# EAGLE library part TSM-106-DV (library con-samtec)
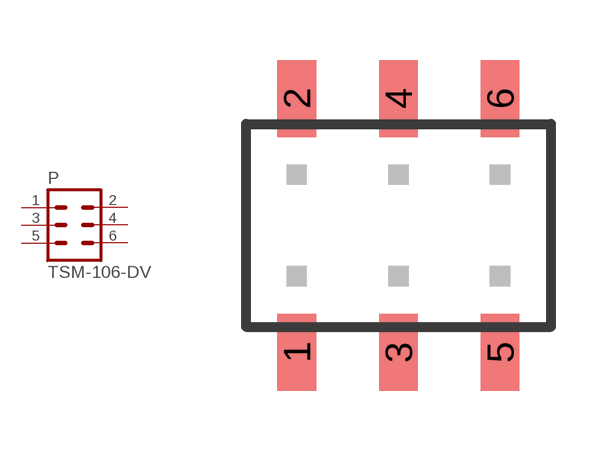
[diagram p3: symbol with the pads of TSM-106-DV; footprint TSM-106-DV]

Designator prefix P

## TSM-106-DV  [TSM-106-DV]
1  1  pas
2  2  pas
3  3  pas
4  4  pas
5  5  pas
6  6  pas

## Footprint TSM-106-DV (pad centres in mm)
smd 0.965 x 1.93: 1 -2.54,-3.175; 2 -2.54,3.175; 3 0,-3.175; 4 0,3.175; 5 2.54,-3.175; 6 2.54,3.175